# Altium footprint library IRM-03-12.PcbLib: 1 footprints
Each footprint in its own frame and in the unit in brackets; x right, y up, seen from the top. Pads: shape width x height; smd on the part's side, far side on the other; paste and mask are expansions set on the pad; w line width, h text height; cw(c..) or ccw(c..) is an arc to the next point about the centre after c.
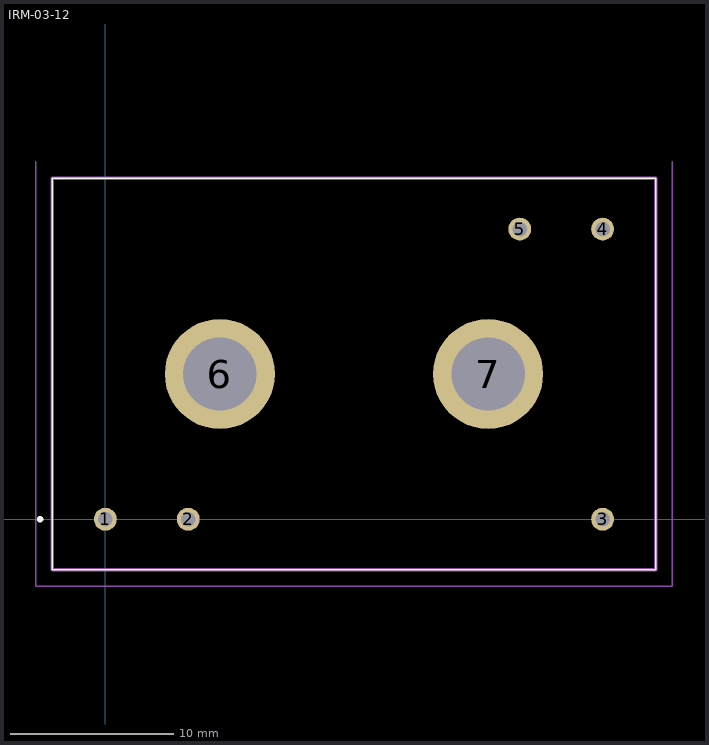
[diagram p0: the footprint, top view; thin cyan lines are the x and y axes]

## IRM-03-12 [mm]
pads (7):
  round 1.4 hole 0.9: 1(0,0) 2(5.08,0) 3(30.48,0) 4(30.48,17.78) 5(25.4,17.78)
  round 6.75 hole 4.5: 6(7.02,8.9) 7(23.46,8.9)
Top Overlay:
  lines w0.1: -3.26,-3.1 -3.26,20.9 33.74,20.9 33.74,-3.1 -3.26,-3.1
  lines w0.2: -4,-0.1 ccw(c-4,0) -4,0.1 ccw(c-4,0) -4,-0.1
Mechanical 13:
  lines w0.2: -3.26,-3.1 -3.26,20.9 33.74,20.9 33.74,-3.1 -3.26,-3.1
Mechanical 15:
  lines w0.1: -4.26,21.9 -4.26,-4.1 34.74,-4.1 34.74,21.9
3D body "convertidor AC_DC - IRM-03-12.step": height 15, standoff -2.5, extent -3.26,-3.11 33.74,20.89